# EAGLE library part BQ29700DSET (library Smile_Shade)
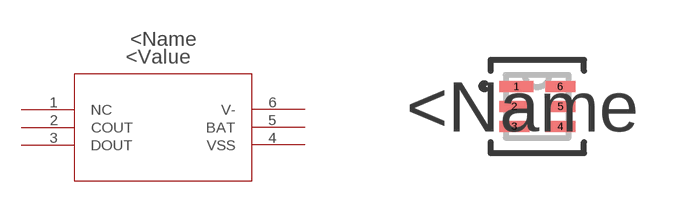
[diagram p5: symbol with the pads of DSE6; footprint DSE6]

Designator prefix U

## BQ29700DSET (COPYRIGHT: Copyright C 2016 Accelerated Designs. All rights reserved; MANUFACTURER_PART_NUMBER: bq29700dset; VENDOR: Texas Instruments)  [DSE6]
1  NC  nc
2  COUT  out
3  DOUT  out
4  VSS  pwr
5  BAT  pwr
6  V-  pwr

## Footprint DSE6 (pad centres in mm)
smd 0.85 x 0.28: 1 -0.525,0.5
smd 0.75 x 0.28: 2 -0.575,0; 3 -0.575,-0.5; 4 0.575,-0.5; 5 0.575,0; 6 0.575,0.5